# EAGLE library part ADP7104 (library noah)
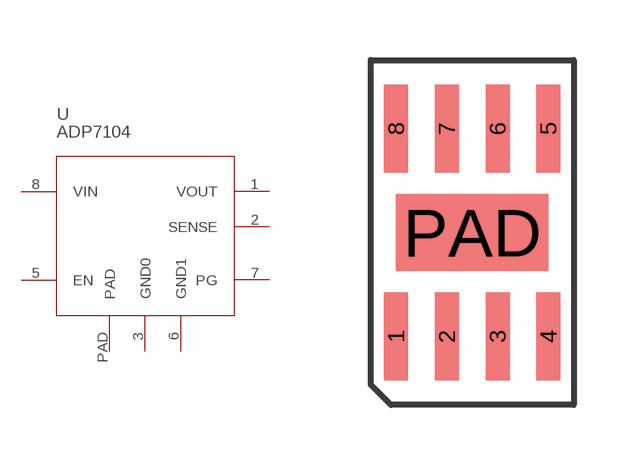
[diagram p40: symbol with the pads of SO8-POWER; footprint SO8-POWER]

Designator prefix U

## ADP7104  [SO8-POWER]
1  VOUT
2  SENSE
3  GND0
5  EN
6  GND1
7  PG
8  VIN
PAD  PAD

## Footprint SO8-POWER (pad centres in mm)
8-Lead Small Outline IC (SO-8) Source: http://www.analog.com/UploadedFiles/Data_Sheets/703465986AD8611_2_0.pdf
smd 0.6 x 2.2: 1 -1.905,-2.6; 2 -0.635,-2.6; 3 0.635,-2.6; 4 1.905,-2.6; 5 1.905,2.6; 6 0.635,2.6; 7 -0.635,2.6; 8 -1.905,2.6
smd 3.81 x 1.93: PAD 0,0